# Altium footprint library Resonators.PcbLib: 3 footprints
Each footprint in its own frame and in the unit in brackets; x right, y up, seen from the top. Pads: shape width x height; smd on the part's side, far side on the other; paste and mask are expansions set on the pad; w line width, h text height; cw(c..) or ccw(c..) is an arc to the next point about the centre after c.
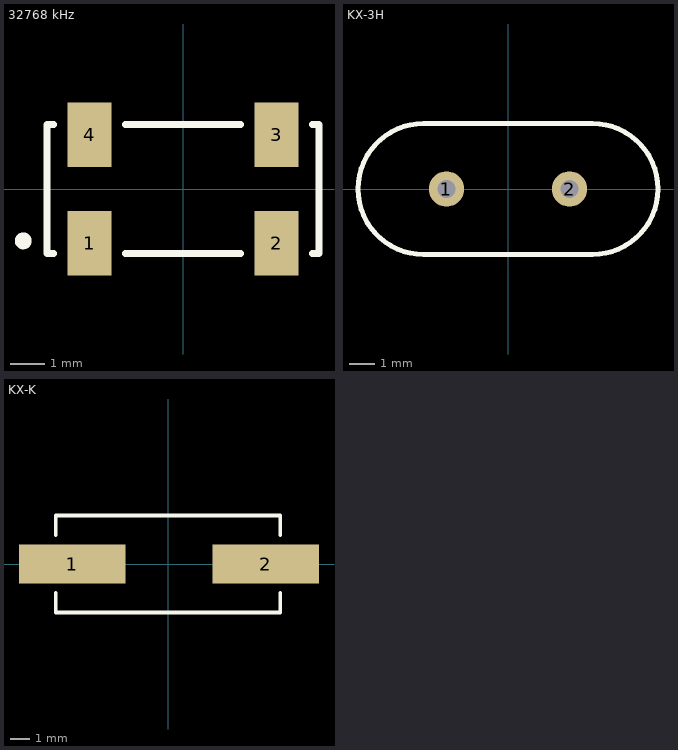
[diagram p0: the footprints below, top view; thin cyan lines are the x and y axes]

## 32768 kHz [mm] "SMD, 4-Leads, Body 8x3.8mm, Pitch 5.5mm, Height 2.5mm"
height 2.5
pads (4):
  rect 1.3x1.9 smd: 1(-2.75,-1.6) 2(2.75,-1.6) 3(2.75,1.6) 4(-2.75,1.6)
Top Overlay:
  circle w0.25: c-4.699,-1.524 r0.125
  lines w0.2: -3.8,-1.9 -4,-1.9 -4,1.9 -3.8,1.9 ; -1.7,-1.9 1.7,-1.9 ; -1.7,1.9 1.7,1.9 ; 3.8,-1.9 4,-1.9 4,1.9 3.8,1.9
3D body "ABS25.STEP": height 2.66, standoff 0, extent -4,-2 4,2

## KX-3H [mm]
pads (2):
  round 1.4 hole 0.7: 1(-2.44,0) 2(2.44,0)
Top Overlay:
  lines w0.2: -3.35,-2.6 cw(c-3.35,0) -3.35,2.6 3.35,2.6 cw(c3.35,0) 3.35,-2.6 -3.35,-2.6
3D body "KX-3HE.stp": height 4.1, standoff -2.5, extent -5.675,-2.325 5.675,2.325

## KX-K [mm]
pads (2):
  rect 5.5x2 smd: 1(-4.95,0) 2(5.05,0)
Top Overlay:
  lines w0.2: -5.8,-1.5 -5.8,-2.5 5.8,-2.5 5.8,-1.5 ; -5.8,1.5 -5.8,2.5 5.8,2.5 5.8,1.5
3D body "User Library-hc49_cystal.STEP": height 5.08, standoff 0, extent -6.7,-2.425 6.7,2.475